# Altium integrated library WE_SMSI_rev20c.IntLib: 169 symbols (part 3 of 3)
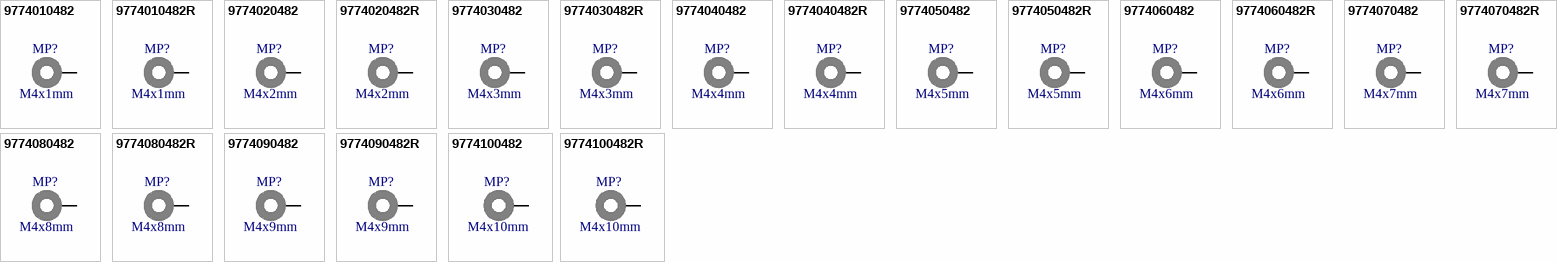
[diagram p8: symbols 9774010482 to 9774100482R]

## 9774020482
designator MP?, comment M4x2mm
WA-SMSI SMT Steel Spacer, M4 Thread Internal, OD 8.2mm, M4x2mm; Manufacturer Part Number: 9774020482; Manufacturer: Wurth Elektronik; Inner Diameter: 5.2mm; Surface: Tin; ComponentLink1Description: Manufacturer; ComponentLink1URL: http://www.we-online.de; ComponentLink2Description: Datasheet; ComponentLink2URL: https://www.we-online.com/catalog/datasheet/9774020482.pdf; Mounting Technology: SMT; Packaging: Bulk; Length: 2mm; Inner Thread Length: -; Operating Temperature: -55 to +150degC; Outer Diameter: 8.2mm; Published Date: April 2020; Material: Steel; Thread: M4
footprint 9774020482
pins: 1

## 9774020482R
designator MP?, comment M4x2mm
WA-SMSI SMT Steel Spacer, M4 Thread Internal, OD 8.2mm, M4x2mm; Manufacturer Part Number: 9774020482R; Manufacturer: Wurth Elektronik; Inner Diameter: 5.2mm; Surface: Tin; ComponentLink1Description: Manufacturer; ComponentLink1URL: http://www.we-online.de; ComponentLink2Description: Datasheet; ComponentLink2URL: https://www.we-online.com/catalog/datasheet/9774020482R.pdf; Mounting Technology: SMT; Packaging: Tape and Reel; Length: 2mm; Inner Thread Length: -; Operating Temperature: -55 to +150degC; Outer Diameter: 8.2mm; Published Date: April 2020; Material: Steel; Thread: M4
footprint 9774020482
pins: 1

## 9774030482
designator MP?, comment M4x3mm
WA-SMSI SMT Steel Spacer, M4 Thread Internal, OD 8.2mm, M4x3mm; Manufacturer Part Number: 9774030482; Manufacturer: Wurth Elektronik; Inner Diameter: 5.2mm; Surface: Tin; ComponentLink1Description: Manufacturer; ComponentLink1URL: http://www.we-online.de; ComponentLink2Description: Datasheet; ComponentLink2URL: https://www.we-online.com/catalog/datasheet/9774030482.pdf; Mounting Technology: SMT; Packaging: Bulk; Length: 3mm; Inner Thread Length: -; Operating Temperature: -55 to +150degC; Outer Diameter: 8.2mm; Published Date: April 2020; Material: Steel; Thread: M4
footprint 9774030482
pins: 1

## 9774030482R
designator MP?, comment M4x3mm
WA-SMSI SMT Steel Spacer, M4 Thread Internal, OD 8.2mm, M4x3mm; Manufacturer Part Number: 9774030482R; Manufacturer: Wurth Elektronik; Inner Diameter: 5.2mm; Surface: Tin; ComponentLink1Description: Manufacturer; ComponentLink1URL: http://www.we-online.de; ComponentLink2Description: Datasheet; ComponentLink2URL: https://www.we-online.com/catalog/datasheet/9774030482R.pdf; Mounting Technology: SMT; Packaging: Tape and Reel; Length: 3mm; Inner Thread Length: -; Operating Temperature: -55 to +150degC; Outer Diameter: 8.2mm; Published Date: April 2020; Material: Steel; Thread: M4
footprint 9774030482
pins: 1

## 9774040482
designator MP?, comment M4x4mm
WA-SMSI SMT Steel Spacer, M4 Thread Internal, OD 8.2mm, M4x4mm; Manufacturer Part Number: 9774040482; Manufacturer: Wurth Elektronik; Inner Diameter: 5.2mm; Surface: Tin; ComponentLink1Description: Manufacturer; ComponentLink1URL: http://www.we-online.de; ComponentLink2Description: Datasheet; ComponentLink2URL: https://www.we-online.com/catalog/datasheet/9774040482.pdf; Mounting Technology: SMT; Packaging: Bulk; Length: 4mm; Inner Thread Length: -; Operating Temperature: -55 to +150degC; Outer Diameter: 8.2mm; Published Date: April 2020; Material: Steel; Thread: M4
footprint 9774040482
pins: 1

## 9774040482R
designator MP?, comment M4x4mm
WA-SMSI SMT Steel Spacer, M4 Thread Internal, OD 8.2mm, M4x4mm; Manufacturer Part Number: 9774040482R; Manufacturer: Wurth Elektronik; Inner Diameter: 5.2mm; Surface: Tin; ComponentLink1Description: Manufacturer; ComponentLink1URL: http://www.we-online.de; ComponentLink2Description: Datasheet; ComponentLink2URL: https://www.we-online.com/catalog/datasheet/9774040482R.pdf; Mounting Technology: SMT; Packaging: Tape and Reel; Length: 4mm; Inner Thread Length: -; Operating Temperature: -55 to +150degC; Outer Diameter: 8.2mm; Published Date: April 2020; Material: Steel; Thread: M4
footprint 9774040482
pins: 1

## 9774050482
designator MP?, comment M4x5mm
WA-SMSI SMT Steel Spacer, M4 Thread Internal, OD 8.2mm, M4x5mm; Manufacturer Part Number: 9774050482; Manufacturer: Wurth Elektronik; Inner Diameter: 5.2mm; Surface: Tin; ComponentLink1Description: Manufacturer; ComponentLink1URL: http://www.we-online.de; ComponentLink2Description: Datasheet; ComponentLink2URL: https://www.we-online.com/catalog/datasheet/9774050482.pdf; Mounting Technology: SMT; Packaging: Bulk; Length: 5mm; Inner Thread Length: -; Operating Temperature: -55 to +150degC; Outer Diameter: 8.2mm; Published Date: April 2020; Material: Steel; Thread: M4
footprint 9774050482
pins: 1

## 9774050482R
designator MP?, comment M4x5mm
WA-SMSI SMT Steel Spacer, M4 Thread Internal, OD 8.2mm, M4x5mm; Manufacturer Part Number: 9774050482R; Manufacturer: Wurth Elektronik; Inner Diameter: 5.2mm; Surface: Tin; ComponentLink1Description: Manufacturer; ComponentLink1URL: http://www.we-online.de; ComponentLink2Description: Datasheet; ComponentLink2URL: https://www.we-online.com/catalog/datasheet/9774050482R.pdf; Mounting Technology: SMT; Packaging: Tape and Reel; Length: 5mm; Inner Thread Length: -; Operating Temperature: -55 to +150degC; Outer Diameter: 8.2mm; Published Date: April 2020; Material: Steel; Thread: M4
footprint 9774050482
pins: 1

## 9774060482
designator MP?, comment M4x6mm
WA-SMSI SMT Steel Spacer, M4 Thread Internal, OD 8.2mm, M4x6mm; Manufacturer Part Number: 9774060482; Manufacturer: Wurth Elektronik; Inner Diameter: 5.2mm; Surface: Tin; ComponentLink1Description: Manufacturer; ComponentLink1URL: http://www.we-online.de; ComponentLink2Description: Datasheet; ComponentLink2URL: https://www.we-online.com/catalog/datasheet/9774060482.pdf; Mounting Technology: SMT; Packaging: Bulk; Length: 6mm; Inner Thread Length: -; Operating Temperature: -55 to +150degC; Outer Diameter: 8.2mm; Published Date: April 2020; Material: Steel; Thread: M4
footprint 9774060482
pins: 1

## 9774060482R
designator MP?, comment M4x6mm
WA-SMSI SMT Steel Spacer, M4 Thread Internal, OD 8.2mm, M4x6mm; Manufacturer Part Number: 9774060482R; Manufacturer: Wurth Elektronik; Inner Diameter: 5.2mm; Surface: Tin; ComponentLink1Description: Manufacturer; ComponentLink1URL: http://www.we-online.de; ComponentLink2Description: Datasheet; ComponentLink2URL: https://www.we-online.com/catalog/datasheet/9774060482R.pdf; Mounting Technology: SMT; Packaging: Tape and Reel; Length: 6mm; Inner Thread Length: -; Operating Temperature: -55 to +150degC; Outer Diameter: 8.2mm; Published Date: April 2020; Material: Steel; Thread: M4
footprint 9774060482
pins: 1

## 9774070482
designator MP?, comment M4x7mm
WA-SMSI SMT Steel Spacer, M4 Thread Internal, OD 8.2mm, M4x7mm; Manufacturer Part Number: 9774070482; Manufacturer: Wurth Elektronik; Inner Diameter: 5.2mm; Surface: Tin; ComponentLink1Description: Manufacturer; ComponentLink1URL: http://www.we-online.de; ComponentLink2Description: Datasheet; ComponentLink2URL: https://www.we-online.com/catalog/datasheet/9774070482.pdf; Mounting Technology: SMT; Packaging: Bulk; Length: 7mm; Inner Thread Length: -; Operating Temperature: -55 to +150degC; Outer Diameter: 8.2mm; Published Date: April 2020; Material: Steel; Thread: M4
footprint 9774070482
pins: 1

## 9774070482R
designator MP?, comment M4x7mm
WA-SMSI SMT Steel Spacer, M4 Thread Internal, OD 8.2mm, M4x7mm; Manufacturer Part Number: 9774070482R; Manufacturer: Wurth Elektronik; Inner Diameter: 5.2mm; Surface: Tin; ComponentLink1Description: Manufacturer; ComponentLink1URL: http://www.we-online.de; ComponentLink2Description: Datasheet; ComponentLink2URL: https://www.we-online.com/catalog/datasheet/9774070482R.pdf; Mounting Technology: SMT; Packaging: Tape and Reel; Length: 7mm; Inner Thread Length: -; Operating Temperature: -55 to +150degC; Outer Diameter: 8.2mm; Published Date: April 2020; Material: Steel; Thread: M4
footprint 9774070482
pins: 1

## 9774080482
designator MP?, comment M4x8mm
WA-SMSI SMT Steel Spacer, M4 Thread Internal, OD 8.2mm, M4x8mm; Manufacturer Part Number: 9774080482; Manufacturer: Wurth Elektronik; Inner Diameter: 5.2mm; Surface: Tin; ComponentLink1Description: Manufacturer; ComponentLink1URL: http://www.we-online.de; ComponentLink2Description: Datasheet; ComponentLink2URL: https://www.we-online.com/catalog/datasheet/9774080482.pdf; Mounting Technology: SMT; Packaging: Bulk; Length: 8mm; Inner Thread Length: -; Operating Temperature: -55 to +150degC; Outer Diameter: 8.2mm; Published Date: April 2020; Material: Steel; Thread: M4
footprint 9774080482
pins: 1

## 9774080482R
designator MP?, comment M4x8mm
WA-SMSI SMT Steel Spacer, M4 Thread Internal, OD 8.2mm, M4x8mm; Manufacturer Part Number: 9774080482R; Manufacturer: Wurth Elektronik; Inner Diameter: 5.2mm; Surface: Tin; ComponentLink1Description: Manufacturer; ComponentLink1URL: http://www.we-online.de; ComponentLink2Description: Datasheet; ComponentLink2URL: https://www.we-online.com/catalog/datasheet/9774080482R.pdf; Mounting Technology: SMT; Packaging: Tape and Reel; Length: 8mm; Inner Thread Length: -; Operating Temperature: -55 to +150degC; Outer Diameter: 8.2mm; Published Date: April 2020; Material: Steel; Thread: M4
footprint 9774080482
pins: 1

## 9774090482
designator MP?, comment M4x9mm
WA-SMSI SMT Steel Spacer, M4 Thread Internal, OD 8.2mm, M4x9mm; Manufacturer Part Number: 9774090482; Manufacturer: Wurth Elektronik; Inner Diameter: 5.2mm; Surface: Tin; ComponentLink1Description: Manufacturer; ComponentLink1URL: http://www.we-online.de; ComponentLink2Description: Datasheet; ComponentLink2URL: https://www.we-online.com/catalog/datasheet/9774090482.pdf; Mounting Technology: SMT; Packaging: Bulk; Length: 9mm; Inner Thread Length: -; Operating Temperature: -55 to +150degC; Outer Diameter: 8.2mm; Published Date: April 2020; Material: Steel; Thread: M4
footprint 9774090482
pins: 1

## 9774090482R
designator MP?, comment M4x9mm
WA-SMSI SMT Steel Spacer, M4 Thread Internal, OD 8.2mm, M4x9mm; Manufacturer Part Number: 9774090482R; Manufacturer: Wurth Elektronik; Inner Diameter: 5.2mm; Surface: Tin; ComponentLink1Description: Manufacturer; ComponentLink1URL: http://www.we-online.de; ComponentLink2Description: Datasheet; ComponentLink2URL: https://www.we-online.com/catalog/datasheet/9774090482R.pdf; Mounting Technology: SMT; Packaging: Tape and Reel; Length: 9mm; Inner Thread Length: -; Operating Temperature: -55 to +150degC; Outer Diameter: 8.2mm; Published Date: April 2020; Material: Steel; Thread: M4
footprint 9774090482
pins: 1

## 9774100482
designator MP?, comment M4x10mm
WA-SMSI SMT Steel Spacer, M4 Thread Internal, OD 8.2mm, M4x10mm; Manufacturer Part Number: 9774100482; Manufacturer: Wurth Elektronik; Inner Diameter: 5.2mm; Surface: Tin; ComponentLink1Description: Manufacturer; ComponentLink1URL: http://www.we-online.de; ComponentLink2Description: Datasheet; ComponentLink2URL: https://www.we-online.com/catalog/datasheet/9774100482.pdf; Mounting Technology: SMT; Packaging: Bulk; Length: 10mm; Inner Thread Length: -; Operating Temperature: -55 to +150degC; Outer Diameter: 8.2mm; Published Date: April 2020; Material: Steel; Thread: M4
footprint 9774100482
pins: 1

## 9774100482R
designator MP?, comment M4x10mm
WA-SMSI SMT Steel Spacer, M4 Thread Internal, OD 8.2mm, M4x10mm; Manufacturer Part Number: 9774100482R; Manufacturer: Wurth Elektronik; Inner Diameter: 5.2mm; Surface: Tin; ComponentLink1Description: Manufacturer; ComponentLink1URL: http://www.we-online.de; ComponentLink2Description: Datasheet; ComponentLink2URL: https://www.we-online.com/catalog/datasheet/9774100482R.pdf; Mounting Technology: SMT; Packaging: Tape and Reel; Length: 10mm; Inner Thread Length: -; Operating Temperature: -55 to +150degC; Outer Diameter: 8.2mm; Published Date: April 2020; Material: Steel; Thread: M4
footprint 9774100482
pins: 1


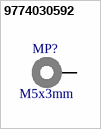
[diagram p6: symbol 9774030592]

## 9774030592
designator MP?, comment M5x3mm
WA-SMSI SMT Steel Spacer, M5 Thread Internal, OD 9.2mm, M5x3mm; Manufacturer Part Number: 9774030592; Manufacturer: Wurth Elektronik; Inner Diameter: 5.8mm; Surface: Tin; ComponentLink1Description: Manufacturer; ComponentLink1URL: http://www.we-online.de; ComponentLink2Description: Datasheet; ComponentLink2URL: https://www.we-online.com/catalog/datasheet/9774030592.pdf; Mounting Technology: SMT; Packaging: Bulk; Length: 3mm; Inner Thread Length: -; Operating Temperature: -55 to +150degC; Outer Diameter: 9.2mm; Published Date: April 2020; Material: Steel; Thread: M5
footprint 9774030592
pins: 1